# Altium schematic symbol library RF_Filters.SchLib: 69 symbols
Pins are listed as number, name and electrical type; pins without a type are passive.

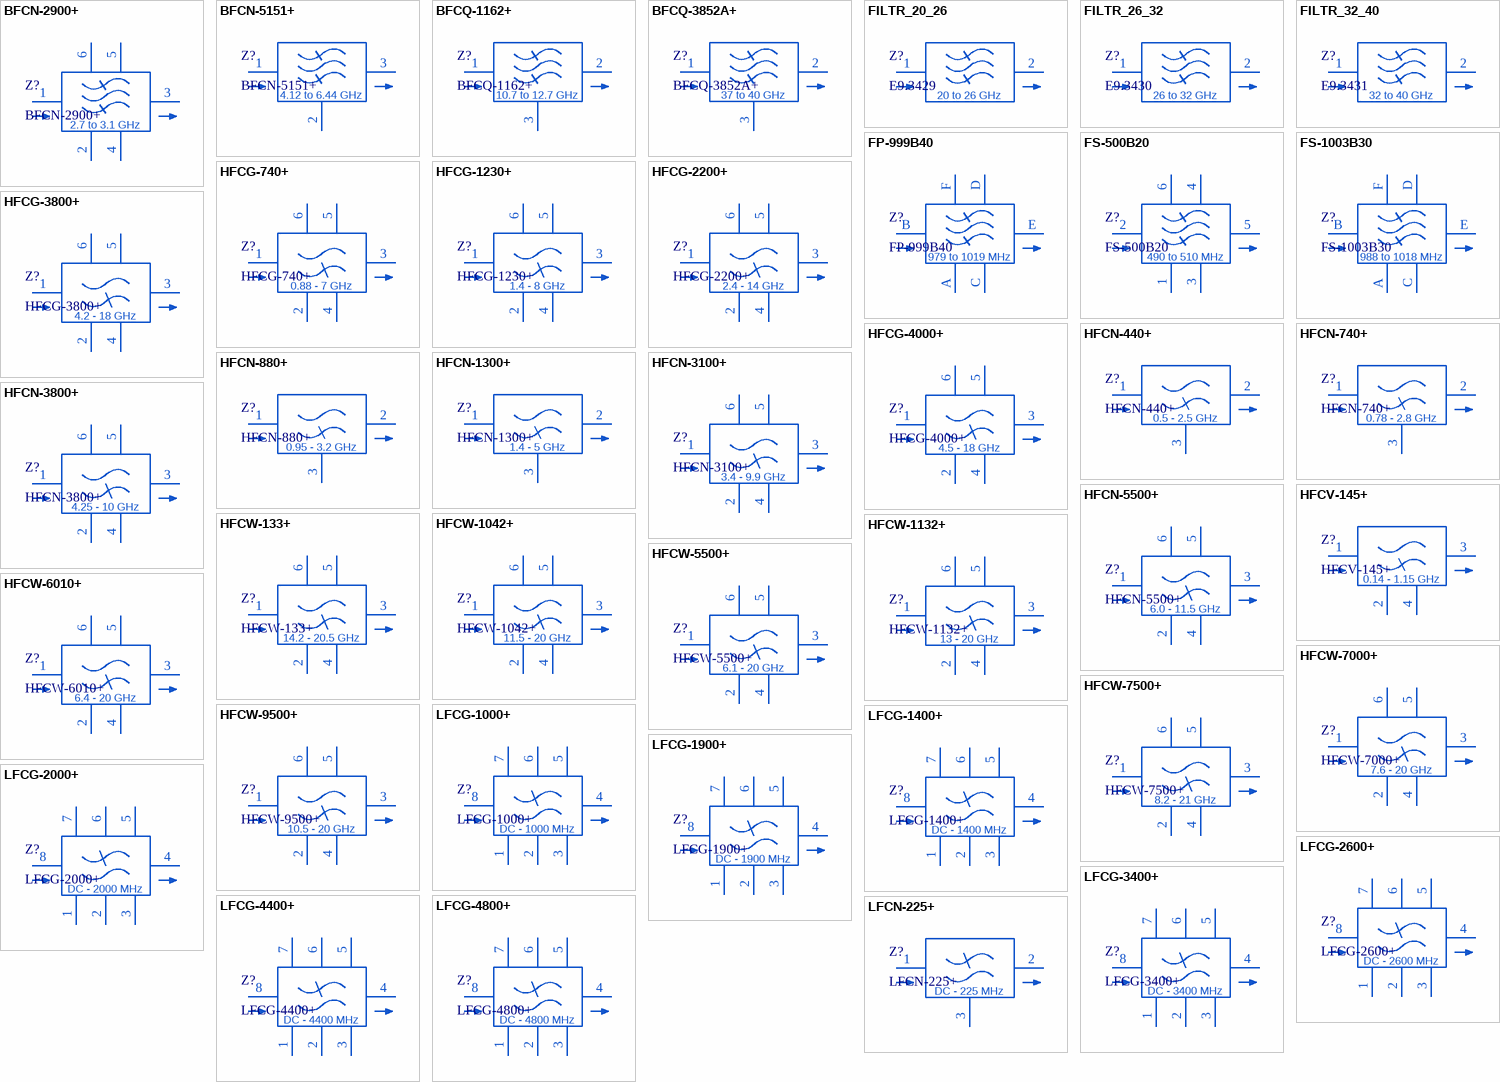
[diagram p0: symbols BFCN-2900+ to LFCN-225+]

## BFCN-2900+
designator Z?
LTCC SMT Bandpass Filter 2700 MHz to 3100 MHz; Manufacturer: Mini-Circuits; PartNumber: BFCN-2900+; Package: FV1206-1; ItemType: Filter; ItemSubType: Band Pass; Mounting: SMD
footprint FV1206-1 (Mini-Circuits FV1206 Case Style)
pins: 1, 2, 3, 4, 5, 6
text: 2.7 to 3.1 GHz

## BFCN-5151+
designator Z?
Ceramic Bandpass Filter 4120 MHz to 6440 MHz; Manufacturer: Mini-Circuits; PartNumber: BFCN-5151+; Package: FV1206-7; ItemType: Filter; ItemSubType: Band Pass; Mounting: SMD
footprint FV1206-7 (Mini-Circuits FV1206-7 Case Style)
pins: 1, 2, 3
text: 4.12 to 6.44 GHz

## BFCQ-1162+
designator Z?
Ceramic Bandpass Filter 10.7 to 12.7 GHz; Manufacturer: Mini-Circuits; Marking: UA; PartNumber: BFCQ-1162+; Package: NL1008C-7; ItemType: Filter; ItemSubType: Band Pass; Mounting: SMD
footprint NL1008C-7 (Mini-Circuits NL1008C-7 Case Style)
pins: 1, 2, 3
text: 10.7 to 12.7 GHz

## BFCQ-3852A+
designator Z?
Ceramic Bandpass Filter 37 to 40 GHz; Manufacturer: Mini-Circuits; Marking: NS; PartNumber: BFCQ-3852A+; Package: NL1008C-6; ItemType: Filter; ItemSubType: Band Pass; Mounting: SMD
footprint NL1008C-6 (Mini-Circuits NL1008C-6 Case Style)
pins: 1, 2, 3
text: 37 to 40 GHz

## FILTR_20_26
designator Z?, comment E9.3429
Polycore Bandpass filter 20 GHz to 26 GHz; Manufacturer: АО "НИИ "Экран"; PartNumber: E9.3429; ItemType: Filter; ItemSubType: Band Pass; Mounting: SMD
footprint Filtr 20-26_32X6
pins: 1, 2
text: 20 to 26 GHz

## FILTR_26_32
designator Z?, comment E9.3430
Polycore Bandpass filter 26 GHz to 32 GHz; Manufacturer: АО "НИИ "Экран"; PartNumber: E9.3430; ItemType: Filter; ItemSubType: Band Pass; Mounting: SMD
footprint Filtr 26-32_27X6
pins: 1, 2
text: 26 to 32 GHz

## FILTR_32_40
designator Z?, comment E9.3431
Polycore Bandpass filter 32 GHz to 40 GHz; Manufacturer: АО "НИИ "Экран"; PartNumber: E9.3431; ItemType: Filter; ItemSubType: Band Pass; Mounting: SMD
footprint Filtr 32-40_23X6
pins: 1, 2
text: 32 to 40 GHz

## FP-999B40
designator Z?
SAW Filter 979 MHz to 1019 MHz; Manufacturer: SAW Techno; PartNumber: FP-999B40; Package: 3x3mm; ItemType: Filter; ItemSubType: SAW; Mounting: SMD
footprint FP-999B40 (Saw Techno FP-999B40)
pins: A, B, C, D, E, F
text: 979 to 1019 MHz

## FS-500B20
designator Z?
SAW Filter 490 MHz to 510 MHz; Manufacturer: SAW Techno; PartNumber: FS-500B20; Package: 3.8x3.8mm; ItemType: Filter; ItemSubType: SAW; Mounting: SMD
footprint FS-500B20 (Saw Techno FS-500B20)
pins: 1, 2, 3, 4, 5, 6
text: 490 to 510 MHz

## FS-1003B30
designator Z?
SAW Filter 988 MHz to 1018 MHz; Manufacturer: SAW Techno; PartNumber: FS-1003B30; Package: 3.8x3.8mm; ItemType: Filter; ItemSubType: SAW; Mounting: SMD
footprint FS-1003B30 (Saw Techno FS-1003B30)
pins: A, B, C, D, E, F
text: 988 to 1018 MHz

## HFCG-740+
designator Z?
Ceramic High Pass Filter 880 to 7000 MHz; Manufacturer: Mini-Circuits; PartNumber: HFCG-740+; Package: GE0805C-9; ItemType: Filter; ItemSubType: High Pass; Mounting: SMD
footprint GE0805C-9 (GE0805C-9 case style for Ceramic Low Pass Filter)
pins: 1, 2, 3, 4, 5, 6
text: 0.88 - 7 GHz

## HFCG-1230+
designator Z?
Ceramic High Pass Filter 1400 to 8000 MHz; Manufacturer: Mini-Circuits; PartNumber: HFCG-1230+; Package: GE0805C-9; ItemType: Filter; ItemSubType: High Pass; Mounting: SMD
footprint GE0805C-9 (GE0805C-9 case style for Ceramic Low Pass Filter)
pins: 1, 2, 3, 4, 5, 6
text: 1.4 - 8 GHz

## HFCG-2200+
designator Z?
Ceramic High Pass Filter 2400 to 14000 MHz; Manufacturer: Mini-Circuits; PartNumber: HFCG-2200+; Package: GE0805C-9; ItemType: Filter; ItemSubType: High Pass; Mounting: SMD
footprint GE0805C-9 (GE0805C-9 case style for Ceramic Low Pass Filter)
pins: 1, 2, 3, 4, 5, 6
text: 2.4 - 14 GHz

## HFCG-3800+
designator Z?
Ceramic High Pass Filter 4200 to 18000 MHz; Manufacturer: Mini-Circuits; PartNumber: HFCG-3800+; Package: GE0805C-9; ItemType: Filter; ItemSubType: High Pass; Mounting: SMD
footprint GE0805C-9 (GE0805C-9 case style for Ceramic Low Pass Filter)
pins: 1, 2, 3, 4, 5, 6
text: 4.2 - 18 GHz

## HFCG-4000+
designator Z?
Ceramic High Pass Filter 4500 to 18000 MHz; Manufacturer: Mini-Circuits; PartNumber: HFCG-4000+; Package: GE0805C-9; ItemType: Filter; ItemSubType: High Pass; Mounting: SMD
footprint GE0805C-9 (GE0805C-9 case style for Ceramic Low Pass Filter)
pins: 1, 2, 3, 4, 5, 6
text: 4.5 - 18 GHz

## HFCN-440+
designator Z?
Ceramic High Pass Filter 500 MHz to 2500 MHz; Manufacturer: Mini-Circuits; PartNumber: HFCN-440+; Package: FV1206; ItemType: Filter; ItemSubType: High Pass; Mounting: SMD
footprint FV1206 (FV1206 case style for Ceramic Low Pass Filter)
pins: 1, 2, 3
text: 0.5 - 2.5 GHz

## HFCN-740+
designator Z?
Ceramic High Pass Filter 780 MHz to 2800 MHz; Manufacturer: Mini-Circuits; PartNumber: HFCN-740+; Package: FV1206; ItemType: Filter; ItemSubType: High Pass; Mounting: SMD
footprint FV1206 (FV1206 case style for Ceramic Low Pass Filter)
pins: 1, 2, 3
text: 0.78 - 2.8 GHz

## HFCN-880+
designator Z?
Ceramic High Pass Filter 950 MHz to 3200 MHz; Manufacturer: Mini-Circuits; PartNumber: HFCN-880+; Package: FV1206; ItemType: Filter; ItemSubType: High Pass; Mounting: SMD
footprint FV1206 (FV1206 case style for Ceramic Low Pass Filter)
pins: 1, 2, 3
text: 0.95 - 3.2 GHz

## HFCN-1300+
designator Z?
Ceramic High Pass Filter 1400 MHz to 5000 MHz; Manufacturer: Mini-Circuits; PartNumber: HFCN-1300+; Package: FV1206; ItemType: Filter; ItemSubType: High Pass; Mounting: SMD
footprint FV1206 (FV1206 case style for Ceramic Low Pass Filter)
pins: 1, 2, 3
text: 1.4 - 5 GHz

## HFCN-3100+
designator Z?
Ceramic High Pass Filter 3400 MHz to 9900 MHz; Manufacturer: Mini-Circuits; PartNumber: HFCN-3100+; Package: FV1206-1; ItemType: Filter; ItemSubType: High Pass; Mounting: SMD
footprint FV1206-1 (Mini-Circuits FV1206 Case Style)
pins: 1, 2, 3, 4, 5, 6
text: 3.4 - 9.9 GHz

## HFCN-3800+
designator Z?
Ceramic High Pass Filter 4250 MHz to 10000 MHz; Manufacturer: Mini-Circuits; PartNumber: HFCN-3800+; Package: FV1206-1; ItemType: Filter; ItemSubType: High Pass; Mounting: SMD
footprint FV1206-1 (Mini-Circuits FV1206 Case Style)
pins: 1, 2, 3, 4, 5, 6
text: 4.25 - 10 GHz

## HFCN-5500+
designator Z?
Ceramic High Pass Filter 6000 MHz to 11500 MHz; Manufacturer: Mini-Circuits; PartNumber: HFCN-5500+; Package: FV1206-1; ItemType: Filter; ItemSubType: High Pass; Mounting: SMD
footprint FV1206-1 (Mini-Circuits FV1206 Case Style)
pins: 1, 2, 3, 4, 5, 6
text: 6.0 - 11.5 GHz

## HFCV-145+
designator Z?
Ceramic High Pass Filter 140 MHz to 1150 MHz; Manufacturer: Mini-Circuits; PartNumber: HFCV-145+; Package: JV1210C; ItemType: Filter; ItemSubType: High Pass; Mounting: SMD
footprint JV1210C (Mini-Circuits CASE STYLE: JV1210C)
pins: 1, 2, 3, 4
text: 0.14 - 1.15 GHz

## HFCW-133+
designator Z?
Ceramic High Pass Filter 14200 to 20500 MHz; Manufacturer: Mini-Circuits; PartNumber: HFCW-133+; Package: JC0603C; ItemType: Filter; ItemSubType: High Pass; Mounting: SMD
footprint JC0603C (Mini-Circuits JC0603C Case Style)
pins: 1, 2, 3, 4, 5, 6
text: 14.2 - 20.5 GHz

## HFCW-1042+
designator Z?
Ceramic High Pass Filter 11500 to 20000 MHz; Manufacturer: Mini-Circuits; PartNumber: HFCW-1042+; Package: JC0603C; ItemType: Filter; ItemSubType: High Pass; Mounting: SMD
footprint JC0603C (Mini-Circuits JC0603C Case Style)
pins: 1, 2, 3, 4, 5, 6
text: 11.5 - 20 GHz

## HFCW-1132+
designator Z?
Ceramic High Pass Filter 13000 to 20000 MHz; Manufacturer: Mini-Circuits; PartNumber: HFCW-1132+; Package: JC0603C; ItemType: Filter; ItemSubType: High Pass; Mounting: SMD
footprint JC0603C (Mini-Circuits JC0603C Case Style)
pins: 1, 2, 3, 4, 5, 6
text: 13 - 20 GHz

## HFCW-5500+
designator Z?
Ceramic High Pass Filter 6100 to 20000 MHz; Manufacturer: Mini-Circuits; PartNumber: HFCW-5500+; Package: JC0603C; ItemType: Filter; ItemSubType: High Pass; Mounting: SMD
footprint JC0603C (Mini-Circuits JC0603C Case Style)
pins: 1, 2, 3, 4, 5, 6
text: 6.1 - 20 GHz

## HFCW-6010+
designator Z?
Ceramic High Pass Filter 6400 to 20000 MHz; Manufacturer: Mini-Circuits; PartNumber: HFCW-6010+; Package: JC0603C; ItemType: Filter; ItemSubType: High Pass; Mounting: SMD
footprint JC0603C (Mini-Circuits JC0603C Case Style)
pins: 1, 2, 3, 4, 5, 6
text: 6.4 - 20 GHz

## HFCW-7000+
designator Z?
Ceramic High Pass Filter 7600 to 20000 MHz; Manufacturer: Mini-Circuits; PartNumber: HFCW-7000+; Package: JC0603C; ItemType: Filter; ItemSubType: High Pass; Mounting: SMD
footprint JC0603C (Mini-Circuits JC0603C Case Style)
pins: 1, 2, 3, 4, 5, 6
text: 7.6 - 20 GHz

## HFCW-7500+
designator Z?
Ceramic High Pass Filter 8200 to 21000 MHz; Manufacturer: Mini-Circuits; PartNumber: HFCW-7500+; Package: JC0603C; ItemType: Filter; ItemSubType: High Pass; Mounting: SMD
footprint JC0603C (Mini-Circuits JC0603C Case Style)
pins: 1, 2, 3, 4, 5, 6
text: 8.2 - 21 GHz

## HFCW-9500+
designator Z?
Ceramic High Pass Filter 10500 to 20000 MHz; Manufacturer: Mini-Circuits; PartNumber: HFCW-9500+; Package: JC0603C; ItemType: Filter; ItemSubType: High Pass; Mounting: SMD
footprint JC0603C (Mini-Circuits JC0603C Case Style)
pins: 1, 2, 3, 4, 5, 6
text: 10.5 - 20 GHz

## LFCG-1000+
designator Z?
Ceramic Low Pass Filter DC to 1000 MHz; Manufacturer: Mini-Circuits; PartNumber: LFCG-1000+; Package: GE0805C-2; ItemType: Filter; ItemSubType: Low Pass; Mounting: SMD
footprint GE0805C-2 (GE0805C-2 case style for Ceramic Low Pass Filter)
pins: 1, 2, 3, 4, 5, 6, 7, 8
text: DC - 1000 MHz

## LFCG-1400+
designator Z?
Ceramic Low Pass Filter DC to 1400 MHz; Manufacturer: Mini-Circuits; PartNumber: LFCG-1400+; Package: GE0805C-2; ItemType: Filter; ItemSubType: Low Pass; Mounting: SMD
footprint GE0805C-2 (GE0805C-2 case style for Ceramic Low Pass Filter)
pins: 1, 2, 3, 4, 5, 6, 7, 8
text: DC - 1400 MHz

## LFCG-1900+
designator Z?
Ceramic Low Pass Filter DC to 1900 MHz; Manufacturer: Mini-Circuits; PartNumber: LFCG-1900+; Package: GE0805C-2; ItemType: Filter; ItemSubType: Low Pass; Mounting: SMD
footprint GE0805C-2 (GE0805C-2 case style for Ceramic Low Pass Filter)
pins: 1, 2, 3, 4, 5, 6, 7, 8
text: DC - 1900 MHz

## LFCG-2000+
designator Z?
Ceramic Low Pass Filter DC to 2000 MHz; Manufacturer: Mini-Circuits; PartNumber: LFCG-2000+; Package: GE0805C-2; ItemType: Filter; ItemSubType: Low Pass; Mounting: SMD
footprint GE0805C-2 (GE0805C-2 case style for Ceramic Low Pass Filter)
pins: 1, 2, 3, 4, 5, 6, 7, 8
text: DC - 2000 MHz

## LFCG-2600+
designator Z?
Ceramic Low Pass Filter DC to 2600 MHz; Manufacturer: Mini-Circuits; PartNumber: LFCG-2600+; Package: GE0805C-2; ItemType: Filter; ItemSubType: Low Pass; Mounting: SMD
footprint GE0805C-2 (GE0805C-2 case style for Ceramic Low Pass Filter)
pins: 1, 2, 3, 4, 5, 6, 7, 8
text: DC - 2600 MHz

## LFCG-3400+
designator Z?
Ceramic Low Pass Filter DC to 3400 MHz; Manufacturer: Mini-Circuits; PartNumber: LFCG-3400+; Package: GE0805C-2; ItemType: Filter; ItemSubType: Low Pass; Mounting: SMD
footprint GE0805C-2 (GE0805C-2 case style for Ceramic Low Pass Filter)
pins: 1, 2, 3, 4, 5, 6, 7, 8
text: DC - 3400 MHz

## LFCG-4400+
designator Z?
Ceramic Low Pass Filter DC to 4400 MHz; Manufacturer: Mini-Circuits; PartNumber: LFCG-4400+; Package: GE0805C-2; ItemType: Filter; ItemSubType: Low Pass; Mounting: SMD
footprint GE0805C-2 (GE0805C-2 case style for Ceramic Low Pass Filter)
pins: 1, 2, 3, 4, 5, 6, 7, 8
text: DC - 4400 MHz

## LFCG-4800+
designator Z?
Ceramic Low Pass Filter DC to 4800 MHz; Manufacturer: Mini-Circuits; PartNumber: LFCG-4800+; Package: GE0805C-2; ItemType: Filter; ItemSubType: Low Pass; Mounting: SMD
footprint GE0805C-2 (GE0805C-2 case style for Ceramic Low Pass Filter)
pins: 1, 2, 3, 4, 5, 6, 7, 8
text: DC - 4800 MHz

## LFCN-225+
designator Z?
Ceramic Low Pass Filter DC to 225 MHz; Manufacturer: Mini-Circuits; PartNumber: LFCN-225+; Package: FV1206; ItemType: Filter; ItemSubType: Low Pass; Mounting: SMD
footprint FV1206 (FV1206 case style for Ceramic Low Pass Filter)
pins: 1, 2, 3
text: DC - 225 MHz

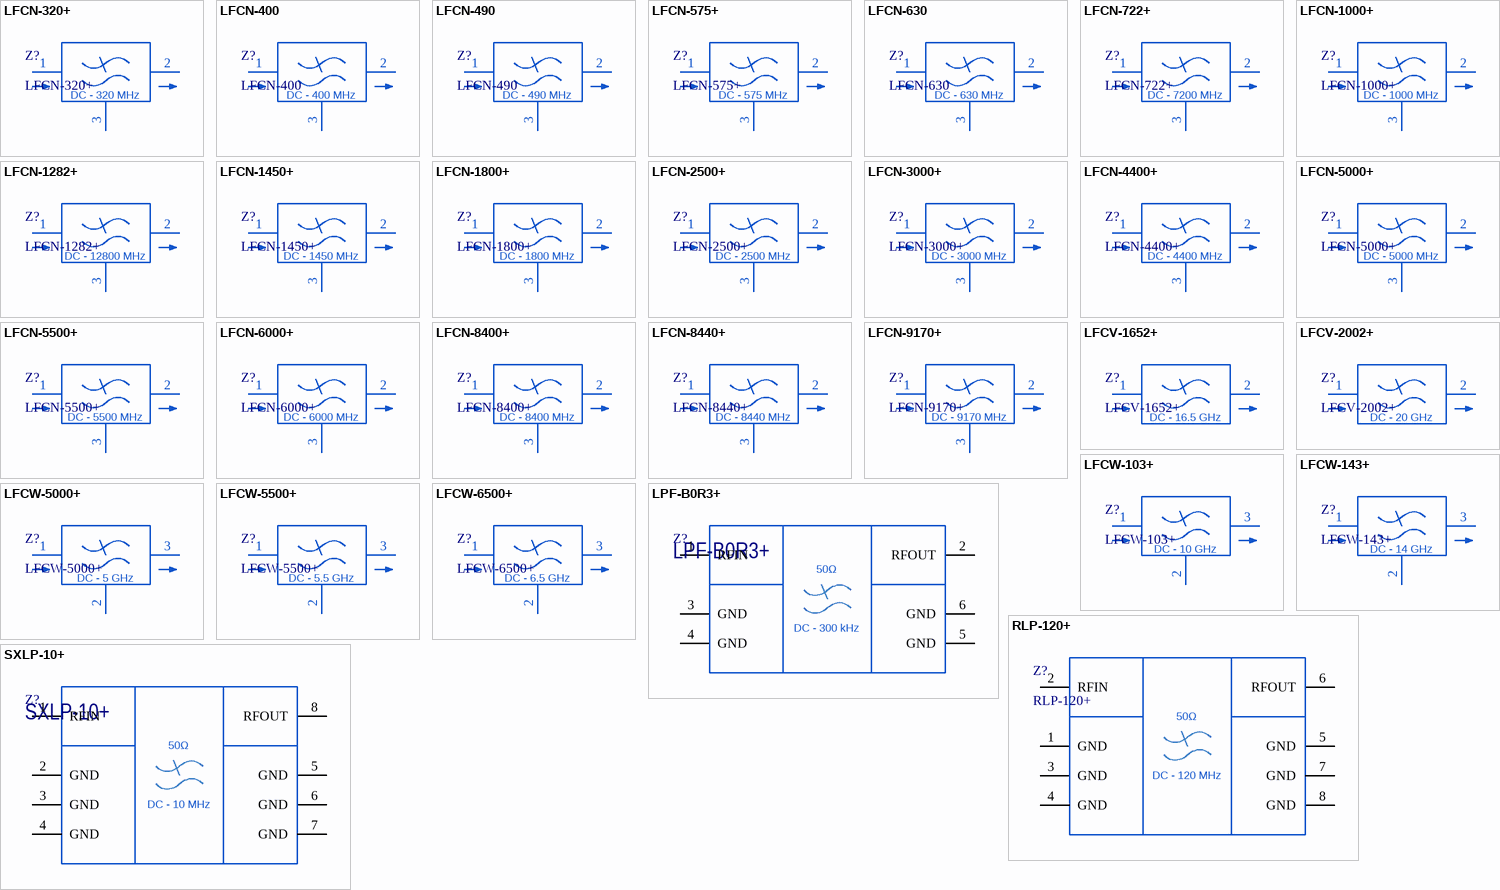
[diagram p1: symbols LFCN-320+ to SXLP-10+]

## LFCN-320+
designator Z?
Ceramic Low Pass Filter DC to 320 MHz; Manufacturer: Mini-Circuits; PartNumber: LFCN-320+; Package: FV1206; ItemType: Filter; ItemSubType: Low Pass; Mounting: SMD
footprint FV1206 (FV1206 case style for Ceramic Low Pass Filter)
pins: 1, 2, 3
text: DC - 320 MHz

## LFCN-400
designator Z?
Ceramic Low Pass Filter DC to 400 MHz; Manufacturer: Mini-Circuits; PartNumber: LFCN-400; Package: FV1206; ItemType: Filter; ItemSubType: Low Pass; Mounting: SMD
footprint FV1206 (FV1206 case style for Ceramic Low Pass Filter)
pins: 1, 2, 3
text: DC - 400 MHz

## LFCN-490
designator Z?
Ceramic Low Pass Filter DC to 490 MHz; Manufacturer: Mini-Circuits; PartNumber: LFCN-490; Package: FV1206; ItemType: Filter; ItemSubType: Low Pass; Mounting: SMD
footprint FV1206 (FV1206 case style for Ceramic Low Pass Filter)
pins: 1, 2, 3
text: DC - 490 MHz

## LFCN-575+
designator Z?
Ceramic Low Pass Filter DC to 575 MHz; Manufacturer: Mini-Circuits; PartNumber: LFCN-575+; Package: FV1206; ItemType: Filter; ItemSubType: Low Pass; Mounting: SMD
footprint FV1206 (FV1206 case style for Ceramic Low Pass Filter)
pins: 1, 2, 3
text: DC - 575 MHz

## LFCN-630
designator Z?
Ceramic Low Pass Filter DC to 630 MHz; Manufacturer: Mini-Circuits; PartNumber: LFCN-630; Package: FV1206; ItemType: Filter; ItemSubType: Low Pass; Mounting: SMD
footprint FV1206 (FV1206 case style for Ceramic Low Pass Filter)
pins: 1, 2, 3
text: DC - 630 MHz

## LFCN-722+
designator Z?
Ceramic Low Pass Filter DC to 7200 MHz; Manufacturer: Mini-Circuits; PartNumber: LFCN-722+; Package: FV1206-4; ItemType: Filter; ItemSubType: Low Pass; Mounting: SMD
footprint FV1206-4 (Mini-Circuits FV1206-4 Case Style)
pins: 1, 2, 3
text: DC - 7200 MHz

## LFCN-1000+
designator Z?
Ceramic Low Pass Filter DC to 1000 MHz; Manufacturer: Mini-Circuits; PartNumber: LFCN-1000+; Package: FV1206; ItemType: Filter; ItemSubType: Low Pass; Mounting: SMD
footprint FV1206 (FV1206 case style for Ceramic Low Pass Filter)
pins: 1, 2, 3
text: DC - 1000 MHz

## LFCN-1282+
designator Z?
Ceramic Low Pass Filter DC to 12800 MHz; Manufacturer: Mini-Circuits; PartNumber: LFCN-1282+; Package: FV1206-4; ItemType: Filter; ItemSubType: Low Pass; Mounting: SMD
footprint FV1206-4 (Mini-Circuits FV1206-4 Case Style)
pins: 1, 2, 3
text: DC - 12800 MHz

## LFCN-1450+
designator Z?
Ceramic Low Pass Filter DC to 1450 MHz; Manufacturer: Mini-Circuits; PartNumber: LFCN-1450+; Package: FV1206; ItemType: Filter; ItemSubType: Low Pass; Mounting: SMD
footprint FV1206 (FV1206 case style for Ceramic Low Pass Filter)
pins: 1, 2, 3
text: DC - 1450 MHz

## LFCN-1800+
designator Z?
Ceramic Low Pass Filter DC to 1800 MHz; Manufacturer: Mini-Circuits; PartNumber: LFCN-1800+; Package: FV1206; ItemType: Filter; ItemSubType: Low Pass; Mounting: SMD
footprint FV1206 (FV1206 case style for Ceramic Low Pass Filter)
pins: 1, 2, 3
text: DC - 1800 MHz

## LFCN-2500+
designator Z?
Ceramic Low Pass Filter DC to 2500 MHz; Manufacturer: Mini-Circuits; PartNumber: LFCN-2500+; Package: FV1206; ItemType: Filter; ItemSubType: Low Pass; Mounting: SMD
footprint FV1206 (FV1206 case style for Ceramic Low Pass Filter)
pins: 1, 2, 3
text: DC - 2500 MHz

## LFCN-3000+
designator Z?
Ceramic Low Pass Filter DC to 3000 MHz; Manufacturer: Mini-Circuits; PartNumber: LFCN-3000+; Package: FV1206; ItemType: Filter; ItemSubType: Low Pass; Mounting: SMD
footprint FV1206 (FV1206 case style for Ceramic Low Pass Filter)
pins: 1, 2, 3
text: DC - 3000 MHz

## LFCN-4400+
designator Z?
Ceramic Low Pass Filter DC to 4400 MHz; Manufacturer: Mini-Circuits; PartNumber: LFCN-4400+; Package: FV1206; ItemType: Filter; ItemSubType: Low Pass; Mounting: SMD
footprint FV1206 (FV1206 case style for Ceramic Low Pass Filter)
pins: 1, 2, 3
text: DC - 4400 MHz

## LFCN-5000+
designator Z?
Ceramic Low Pass Filter DC to 5000 MHz; Manufacturer: Mini-Circuits; PartNumber: LFCN-5000+; Package: FV1206; ItemType: Filter; ItemSubType: Low Pass; Mounting: SMD
footprint FV1206 (FV1206 case style for Ceramic Low Pass Filter)
pins: 1, 2, 3
text: DC - 5000 MHz

## LFCN-5500+
designator Z?
Ceramic Low Pass Filter DC to 5500 MHz; Manufacturer: Mini-Circuits; PartNumber: LFCN-5500+; Package: FV1206; ItemType: Filter; ItemSubType: Low Pass; Mounting: SMD
footprint FV1206 (FV1206 case style for Ceramic Low Pass Filter)
pins: 1, 2, 3
text: DC - 5500 MHz

## LFCN-6000+
designator Z?
Ceramic Low Pass Filter DC to 6000 MHz; Manufacturer: Mini-Circuits; PartNumber: LFCN-6000+; Package: FV1206; ItemType: Filter; ItemSubType: Low Pass; Mounting: SMD
footprint FV1206 (FV1206 case style for Ceramic Low Pass Filter)
pins: 1, 2, 3
text: DC - 6000 MHz

## LFCN-8400+
designator Z?
Ceramic Low Pass Filter DC to 8400 MHz; Manufacturer: Mini-Circuits; PartNumber: LFCN-8400+; Package: FV1206-4; ItemType: Filter; ItemSubType: Low Pass; Mounting: SMD
footprint FV1206-4 (Mini-Circuits FV1206-4 Case Style)
pins: 1, 2, 3
text: DC - 8400 MHz

## LFCN-8440+
designator Z?
Ceramic Low Pass Filter DC to 8440 MHz; Manufacturer: Mini-Circuits; PartNumber: LFCN-8440+; Package: FV1206-4; ItemType: Filter; ItemSubType: Low Pass; Mounting: SMD
footprint FV1206-4 (Mini-Circuits FV1206-4 Case Style)
pins: 1, 2, 3
text: DC - 8440 MHz

## LFCN-9170+
designator Z?
Ceramic Low Pass Filter DC to 9170 MHz; Manufacturer: Mini-Circuits; PartNumber: LFCN-9170+; Package: FV1206-4; ItemType: Filter; ItemSubType: Low Pass; Mounting: SMD
footprint FV1206-4 (Mini-Circuits FV1206-4 Case Style)
pins: 1, 2, 3
text: DC - 9170 MHz

## LFCV-1652+
designator Z?
Ceramic Low Pass Filter DC to 16500 MHz; Manufacturer: Mini-Circuits; PartNumber: LFCV-1652+; Package: JV1210C-7; ItemType: Filter; ItemSubType: Low Pass; Mounting: SMD
footprint JV1210C-7 (Mini-Circuits CASE STYLE: JV1210C-7)
pins: 1, 2
text: DC - 16.5 GHz

## LFCV-2002+
designator Z?
LTCC SMT Low Pass Filter DC to 20 GHz; Manufacturer: Mini-Circuits; PartNumber: LFCV-2002+; Package: JV1210C-13; ItemType: Filter; ItemSubType: Low Pass; Mounting: SMD
footprint JV1210C-13 (Chip FILTER)
pins: 1, 2
text: DC - 20 GHz

## LFCW-103+
designator Z?
Ceramic Low Pass Filter DC to 10000 MHz; Manufacturer: Mini-Circuits; PartNumber: LFCW-103+; Package: JC0603C-1; ItemType: Filter; ItemSubType: Low Pass; Mounting: SMD
footprint JC0603C-1 (Mini-Circuits JC0603C-1 Case Style)
pins: 1, 2, 3
text: DC - 10 GHz

## LFCW-143+
designator Z?
Ceramic Low Pass Filter DC to 14000 MHz; Manufacturer: Mini-Circuits; PartNumber: LFCW-143+; Package: JC0603C-1; ItemType: Filter; ItemSubType: Low Pass; Mounting: SMD
footprint JC0603C-1 (Mini-Circuits JC0603C-1 Case Style)
pins: 1, 2, 3
text: DC - 14 GHz

## LFCW-5000+
designator Z?
Ceramic Low Pass Filter DC to 5000 MHz; Manufacturer: Mini-Circuits; PartNumber: LFCW-5000+; Package: JC0603C-1; ItemType: Filter; ItemSubType: Low Pass; Mounting: SMD
footprint JC0603C-1 (Mini-Circuits JC0603C-1 Case Style)
pins: 1, 2, 3
text: DC - 5 GHz

## LFCW-5500+
designator Z?
Ceramic Low Pass Filter DC to 5500 MHz; Manufacturer: Mini-Circuits; PartNumber: LFCW-5500+; Package: JC0603C-1; ItemType: Filter; ItemSubType: Low Pass; Mounting: SMD
footprint JC0603C-1 (Mini-Circuits JC0603C-1 Case Style)
pins: 1, 2, 3
text: DC - 5.5 GHz

## LFCW-6500+
designator Z?
Ceramic Low Pass Filter DC to 6500 MHz; Manufacturer: Mini-Circuits; PartNumber: LFCW-6500+; Package: JC0603C-1; ItemType: Filter; ItemSubType: Low Pass; Mounting: SMD
footprint JC0603C-1 (Mini-Circuits JC0603C-1 Case Style)
pins: 1, 2, 3
text: DC - 6.5 GHz

## LPF-B0R3+
designator Z?
Low Pass Filter 50Ω DC to 0.3 MHz; Manufacturer: Mini-Circuits; PartNumber: LPF-B0R3+; Package: HZ1198; ItemType: Filter; ItemSubType: Low Pass; Mounting: SMD
footprint HZ1198 (Mini-Circuits CASE STYLE: HZ1198)
pins: 1 RFIN, 2 RFOUT, 3 GND, 4 GND, 5 GND, 6 GND
text: 50Ω; DC - 300 kHz

## RLP-120+
designator Z?
Metal Shield Low Pass Filter DC to 120 MHz; Manufacturer: Mini-Circuits; PartNumber: RLP-120+; Package: GP731; ItemType: Filter; ItemSubType: Low Pass; Mounting: SMD
footprint GP731 (Mini-Circuits GP731 Case Style)
pins: 1 GND, 2 RFIN, 3 GND, 4 GND, 5 GND, 6 RFOUT, 7 GND, 8 GND
text: 50Ω; DC - 120 MHz

## SXLP-10+
designator Z?
Low Pass Filter 50Ω DC to 10 MHz; Manufacturer: Mini-Circuits; PartNumber: SXLP-10+; Package: HF1139; ItemType: Filter; ItemSubType: Low Pass; Mounting: SMD
footprint HF1139 (Minicircuits HF1139 case style)
pins: 1 RFIN, 2 GND, 3 GND, 4 GND, 5 GND, 6 GND, 7 GND, 8 RFOUT
text: 50Ω; DC - 10 MHz